# EAGLE library part CON-LSTB_MY_MA05-2 (library OOCD-Link_simple-04)
PIN HEADER
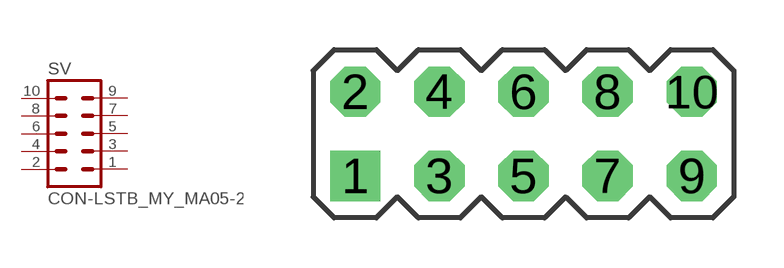
[diagram p1: symbol with the pads of CON-LSTB_MY_MA05-2; footprint CON-LSTB_MY_MA05-2]

Designator prefix SV

## CON-LSTB_MY_MA05-2  [CON-LSTB_MY_MA05-2]
1  1  pas
2  2  pas
3  3  pas
4  4  pas
5  5  pas
6  6  pas
7  7  pas
8  8  pas
9  9  pas
10  10  pas

## Footprint CON-LSTB_MY_MA05-2 (pad centres in mm)
PIN HEADER
drill 1.016 square: 1 -5.08,-1.27
drill 1.016 octagon: 2 -5.08,1.27; 3 -2.54,-1.27; 4 -2.54,1.27; 5 0,-1.27; 6 0,1.27; 7 2.54,-1.27; 8 2.54,1.27; 9 5.08,-1.27; 10 5.08,1.27